# Altium footprint library SOT23-3P95_237X111L42X43N.PcbLib: 1 footprints
Each footprint in its own frame and in the unit in brackets; x right, y up, seen from the top. Pads: shape width x height; smd on the part's side, far side on the other; paste and mask are expansions set on the pad; w line width, h text height; cw(c..) or ccw(c..) is an arc to the next point about the centre after c.
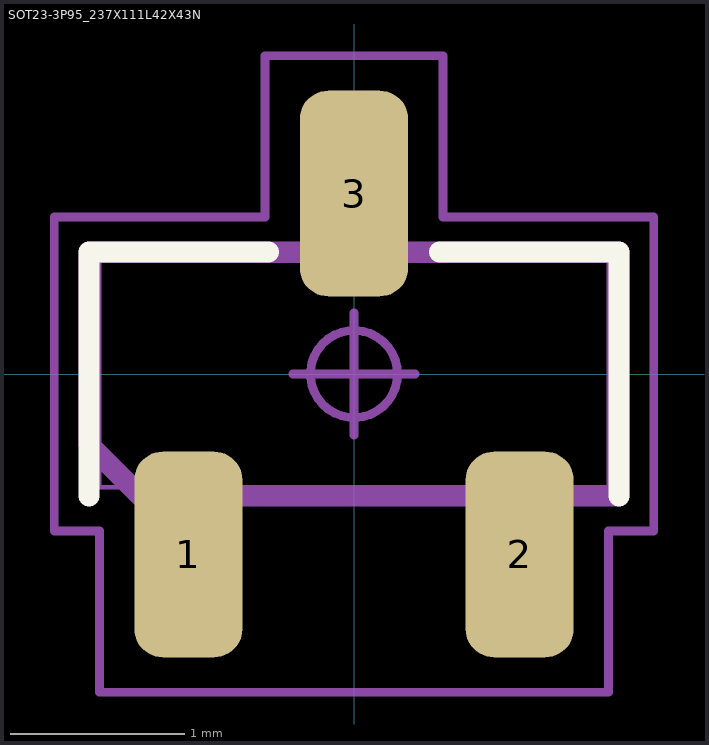
[diagram p0: the footprint, top view; thin cyan lines are the x and y axes]

## SOT23-3P95_237X111L42X43N [mm] "Small Outline Transistor (SOT23), 0.95 mm pitch; 3 pin, 2.92 mm L X 1.30 mm W X 1.11 mm H body"
height 1.11
pads (3):
  rrect52% 0.62x1.18 smd: 1(-0.95,-1.035) 2(0.95,-1.035) 3(0,1.035)
Top Overlay:
  lines w0.12: -1.52,-0.7 -1.52,0.7 -0.49,0.7 ; 0.49,0.7 1.52,0.7 1.52,-0.7
Mechanical 3:
  lines w0.12: -1.52,-0.405 -1.52,0.7 1.52,0.7 1.52,-0.7 -1.225,-0.7 -1.52,-0.405
Mechanical 5:
  lines w0.025: -1.46,-0.65 1.46,-0.65 1.46,0.65 -1.46,0.65 -1.46,-0.65 ; -1.168,-1.185 -1.168,-0.76 -0.733,-0.76 -0.733,-1.185 -1.168,-1.185 ; -0.218,0.76 -0.218,1.185 0.218,1.185 0.218,0.76 -0.218,0.76 ; 0.733,-1.185 0.733,-0.76 1.168,-0.76 1.168,-1.185 0.733,-1.185
Mechanical 7:
  circle w0.05: c0,0 r0.25
  lines w0.05: -0.35,0 0.35,0 ; 0,-0.35 0,0.35 ; -1.72,-0.9 -1.46,-0.9 -1.46,-1.825 1.46,-1.825 1.46,-0.9 1.72,-0.9 1.72,0.9 0.51,0.9 0.51,1.825 -0.51,1.825 -0.51,0.9 -1.72,0.9 -1.72,-0.9
Mechanical 9:
  text "'.Designator'" at -7.43,-0.654 h1
3D body: height 2, standoff 0.05, extent -1.725,-1.825 1.725,1.825
3D body "SOT23-3P95_237X111L42X43.STEP": height 1.11, standoff 0, extent -1.46,-1.185 1.46,1.185
3D body: height 1.04, standoff 0, extent -1.72,-1.825 1.72,1.825